# Altium schematic symbol library micro-sd-card-reader.SchLib: 5 symbols
Pins are listed as number, name and electrical type; pins without a type are passive.

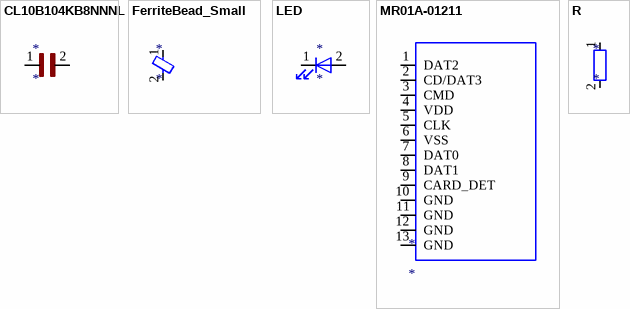
[diagram p0: symbols CL10B104KB8NNNL to R]

## CL10B104KB8NNNL
designator *
pins: 1, 2

## FerriteBead_Small
designator *
pins: 1, 2

## LED
designator *
pins: 1 K, 2 A

## MR01A-01211
designator *
pins: 1 DAT2, 2 CD/DAT3, 3 CMD, 4 VDD, 5 CLK, 6 VSS, 7 DAT0, 8 DAT1, 9 CARD_DET, 10 GND, 11 GND, 12 GND, 13 GND

## R
designator *
pins: 1, 2